# EAGLE library part MC33926 (library h-bridge)
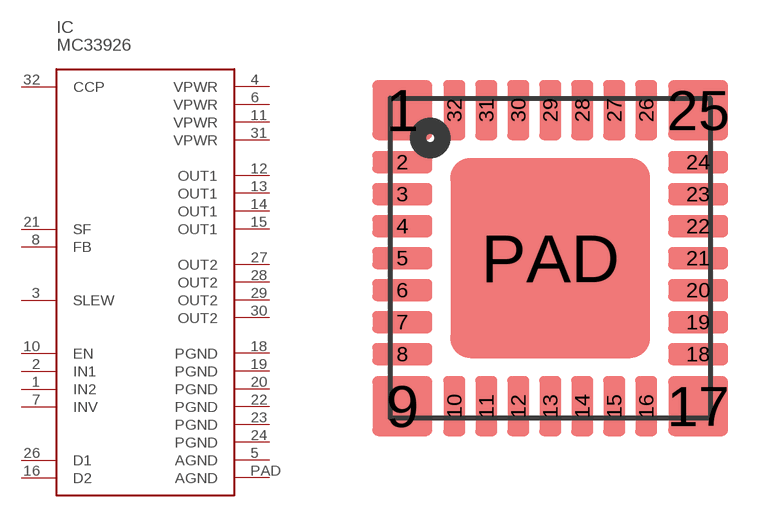
[diagram p0: symbol with the pads of PQFN32; footprint PQFN32]

Designator prefix IC

## MC33926  [PQFN32]
1  IN2
2  IN1
3  SLEW
4  VPWR
5  AGND
6  VPWR
7  INV
8  FB
10  EN
11  VPWR
12  OUT1
13  OUT1
14  OUT1
15  OUT1
16  D2
18  PGND
19  PGND
20  PGND
21  SF
22  PGND
23  PGND
24  PGND
26  D1
27  OUT2
28  OUT2
29  OUT2
30  OUT2
31  VPWR
32  CCP
PAD  AGND

## Footprint PQFN32 (pad centres in mm)
smd 1.5 x 1.5: 1 -3.7,3.7; 9 -3.7,-3.7; 17 3.7,-3.7; 25 3.7,3.7
smd 1.5 x 0.55: 2 -3.7,2.4; 3 -3.7,1.6; 4 -3.7,0.8; 5 -3.7,0; 6 -3.7,-0.8; 7 -3.7,-1.6; 8 -3.7,-2.4; 18 3.7,-2.4; 19 3.7,-1.6; 20 3.7,-0.8; 21 3.7,0; 22 3.7,0.8; 23 3.7,1.6; 24 3.7,2.4
smd 0.55 x 1.5: 10 -2.4,-3.7; 11 -1.6,-3.7; 12 -0.8,-3.7; 13 0,-3.7; 14 0.8,-3.7; 15 1.6,-3.7; 16 2.4,-3.7; 26 2.4,3.7; 27 1.6,3.7; 28 0.8,3.7; 29 0,3.7; 30 -0.8,3.7; 31 -1.6,3.7; 32 -2.4,3.7
smd 5 x 5: PAD 0,0